# Altium integrated library Silicon Labs Isolation and Power.IntLib: 421 symbols (part 7 of 19)
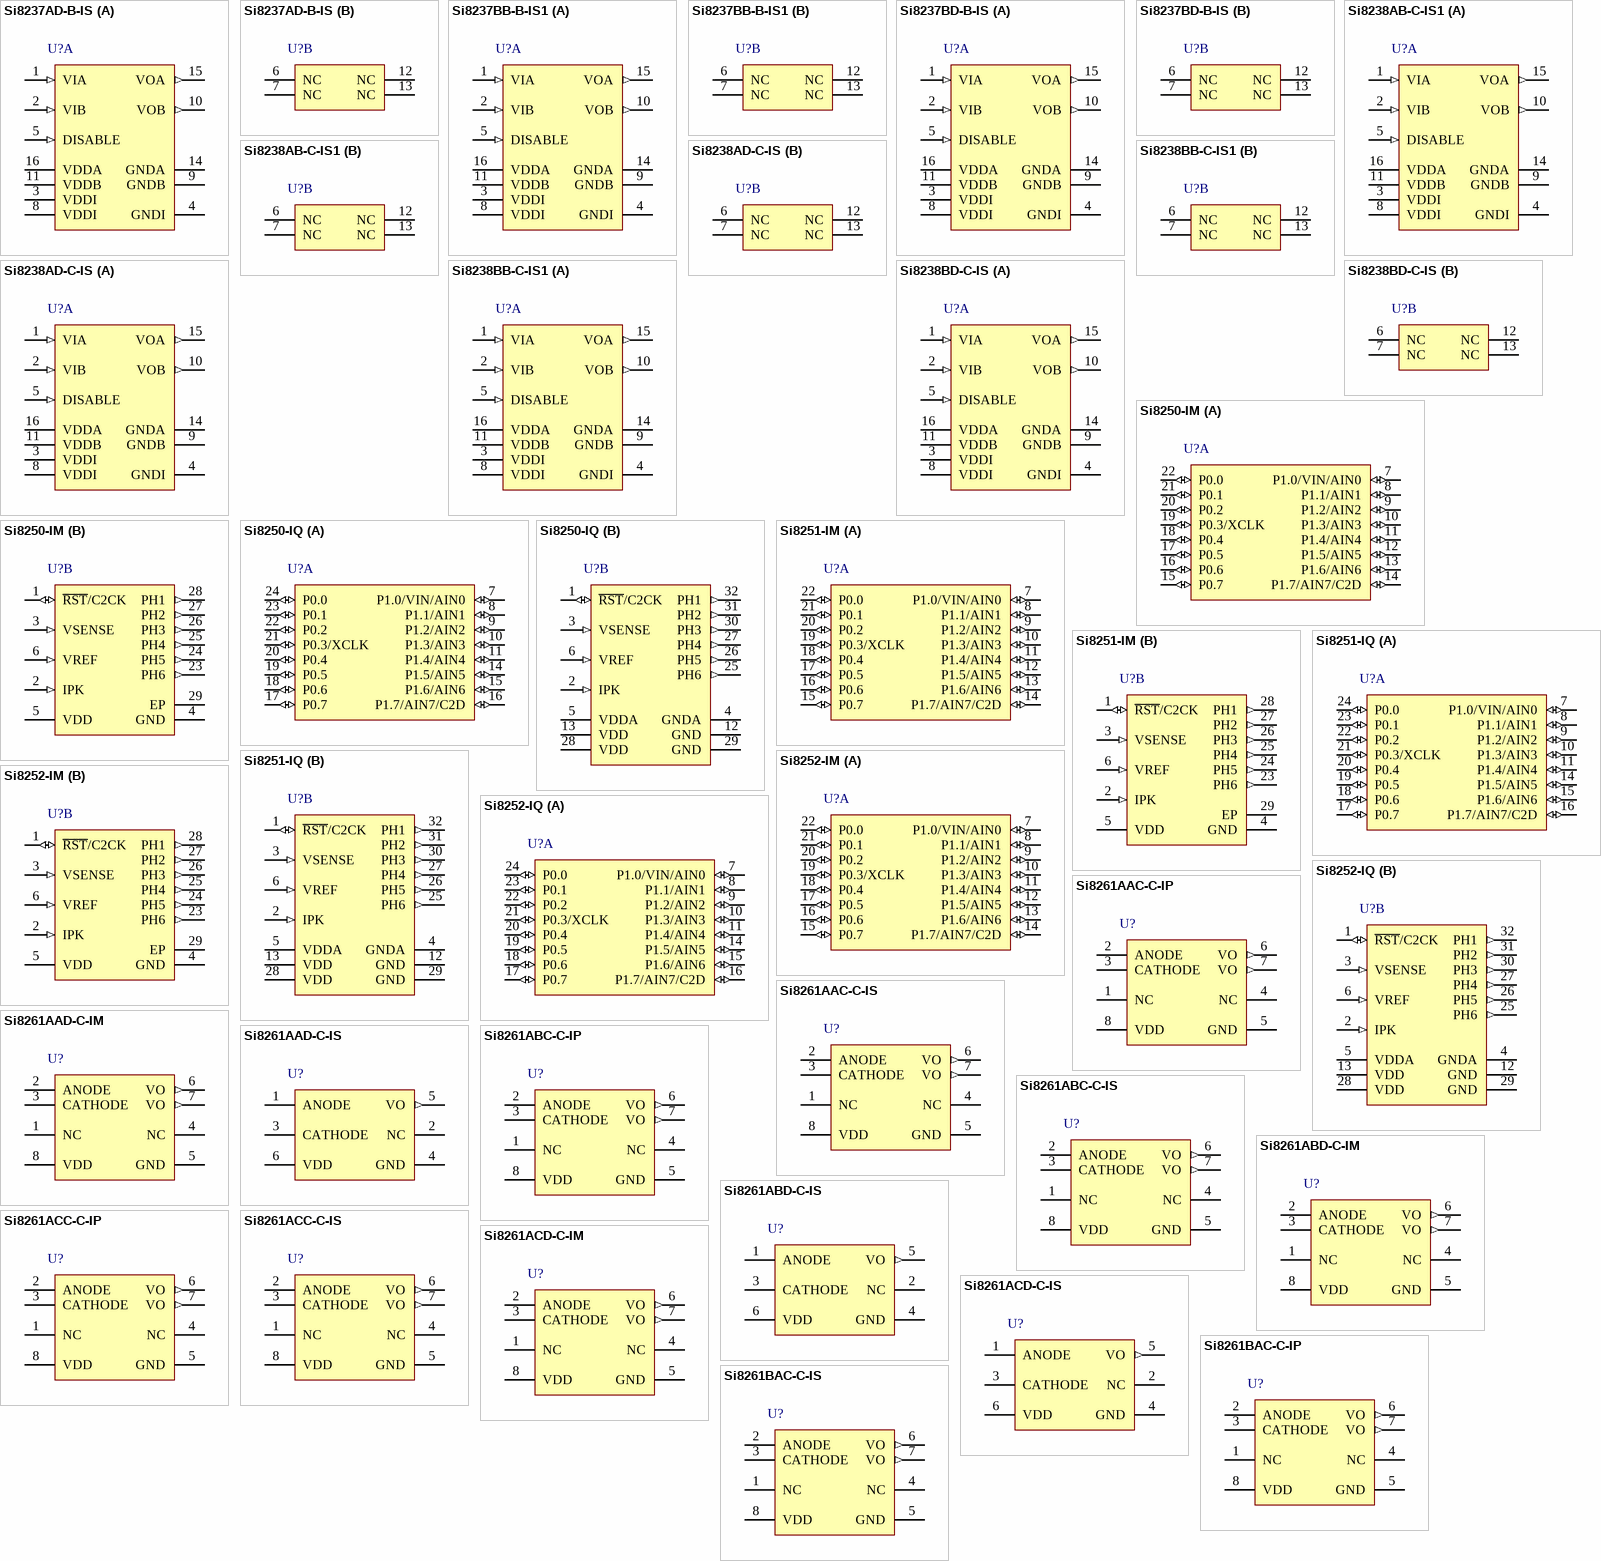
[diagram p20: symbols Si8237AD-B-IS to Si8261BAC-C-IS]

## Si8250-IM
designator U?
Digital Power Controller, 32 kB Flash, 6 DPWM Outputs, -40 to 125 degC, 28-pin QFN; Manufacturer: Silicon Labs; PartNumber: Si8250-IM; DPWM Outputs: 6; Flash: 32 kB; Sub-Family: Power Controllers; DatasheetVersion: Rev. 1.0; PackageReference: QFN-28; Supplier 1: Digi-Key; Supplier Part Number 1: SI8250-IM-ND; Supplier 2: Mouser; Supplier Part Number 2: 634-SI8250-IM; Mounting Technology: Surface Mount; ComponentLink1Description: Manufacturer URL; ComponentLink1URL: http://www.silabs.com/; ComponentLink2Description: Datasheet; ComponentLink2URL: http://www.silabs.com/Support%20Documents/TechnicalDocs/Si8250.pdf; ComponentLink3Description: Package Specification; ComponentLink3URL: http://www.silabs.com/Support%20Documents/TechnicalDocs/Si8250.pdf
footprint SLAB-QFN-28-3125x3125TP_AA_V (QFN, 28-Leads, Body 5x5mm, Pitch 0.5mm, Thermal Pad 3.3x3.3mm)
part A pins: 7 P1.0/VIN/AIN0 (io) "Port 1 I/O or scaled power supply input voltage or ADC input 0", 8 P1.1/AIN1 (io) "Port 1 I/O or ADC input 1", 9 P1.2/AIN2 (io) "Port 1 I/O or ADC input 2", 10 P1.3/AIN3 (io) "Port 1 I/O or ADC input 3", 11 P1.4/AIN4 (io) "Port 1 I/O or ADC input 4", 12 P1.5/AIN5 (io) "Port 1 I/O or ADC input 5", 13 P1.6/AIN6 (io) "Port 1 I/O or ADC input 6", 14 P1.7/AIN7/C2D (io) "Port 1 I/O or ADC input 7 or C2 Data", 15 P0.7 (io) "Port 0 I/O", 16 P0.6 (io) "Port 0 I/O", 17 P0.5 (io) "Port 0 I/O", 18 P0.4 (io) "Port 0 I/O", 19 P0.3/XCLK (io) "Port 0 I/O", 20 P0.2 (io) "Port 0 I/O", 21 P0.1 (io) "Port 0 I/O", 22 P0.0 (io) "Port 0 I/O or bidirectional debug data"
part B pins: 1 ~{RST}/C2CK (io) "Reset input or bidirect debug clock", 2 IPK (in) "Inductor current input", 3 VSENSE (in) "Output voltage feedback input", 4 GND (power) "Ground", 5 VDD (power) "Power supply input", 6 VREF (in) "External voltage reference input", 23 PH6 (out) "Phase 6 switch control output", 24 PH5 (out) "Phase 5 switch control output", 25 PH4 (out) "Phase 4 switch control output", 26 PH3 (out) "Phase 3 switch control output", 27 PH2 (out) "Phase 2 switch control output", 28 PH1 (out) "Phase 1 switch control output", 29 EP (power)

## Si8250-IQ
designator U?
Digital Power Controller, 32 kB Flash, 6 DPWM Outputs, -40 to 125 degC, 32-pin QFP; Manufacturer: Silicon Labs; PartNumber: Si8250-IQ; DPWM Outputs: 6; Flash: 32 kB; Sub-Family: Power Controllers; DatasheetVersion: Rev. 1.0; PackageReference: LQFP-32; PackageDescription: 32-Pin Low-Profile Quad Flat Pack, Body 7 x 7 mm, Pitch 0.8 mm; Supplier 1: Digi-Key; Supplier Part Number 1: SI8250-IQ-ND; Supplier 2: Mouser; Supplier Part Number 2: 634-SI8250-IQ; Mounting Technology: Surface Mount; Code_JEDEC: MS-026; Code_IPC: J-STD-020; ComponentLink1Description: Manufacturer URL; ComponentLink1URL: http://www.silabs.com/; ComponentLink2Description: Datasheet; ComponentLink2URL: http://www.silabs.com/Support%20Documents/TechnicalDocs/Si8250.pdf; ComponentLink3Description: Package Specification; ComponentLink3URL: http://www.silabs.com/Support%20Documents/TechnicalDocs/C8051F38x.pdf
footprint SLAB-LQFP-32_N (QFP, 32-Leads, Body 7x7mm, Pitch 0.8mm, IPC Medium Density)
footprint SLAB-LQFP-32_L (QFP, 32-Leads, Body 7x7mm, Pitch 0.8mm, IPC High Density)
footprint SLAB-LQFP-32_M (QFP, 32-Leads, Body 7x7mm, Pitch 0.8mm, IPC Low Density)
part A pins: 7 P1.0/VIN/AIN0 (io) "Port 1 I/O or scaled power supply input voltage or ADC input 0", 8 P1.1/AIN1 (io) "Port 1 I/O or ADC input 1", 9 P1.2/AIN2 (io) "Port 1 I/O or ADC input 2", 10 P1.3/AIN3 (io) "Port 1 I/O or ADC input 3", 11 P1.4/AIN4 (io) "Port 1 I/O or ADC input 4", 14 P1.5/AIN5 (io) "Port 1 I/O or ADC input 5", 15 P1.6/AIN6 (io) "Port 1 I/O or ADC input 6", 16 P1.7/AIN7/C2D (io) "Port 1 I/O or ADC input 7 or C2 Data", 17 P0.7 (io) "Port 0 I/O", 18 P0.6 (io) "Port 0 I/O", 19 P0.5 (io) "Port 0 I/O", 20 P0.4 (io) "Port 0 I/O", 21 P0.3/XCLK (io) "Port 0 I/O", 22 P0.2 (io) "Port 0 I/O", 23 P0.1 (io) "Port 0 I/O", 24 P0.0 (io) "Port 0 I/O or bidirectional debug data"
part B pins: 1 ~{RST}/C2CK (io) "Reset input or bidirect debug clock", 2 IPK (in) "Inductor current input", 3 VSENSE (in) "Output voltage feedback input", 4 GNDA (power) "Ground", 5 VDDA (power) "Power supply input", 6 VREF (in) "External voltage reference input", 12 GND (power) "Ground", 13 VDD (power) "Power supply input", 25 PH6 (out) "Phase 6 switch control output", 26 PH5 (out) "Phase 5 switch control output", 27 PH4 (out) "Phase 4 switch control output", 28 VDD (power) "Power supply input", 29 GND (power) "Ground", 30 PH3 (out) "Phase 3 switch control output", 31 PH2 (out) "Phase 2 switch control output", 32 PH1 (out) "Phase 1 switch control output"

## Si8251-IM
designator U?
Digital Power Controller, 16 kB Flash, 6 DPWM Outputs, -40 to 125 degC, 28-pin QFN; Manufacturer: Silicon Labs; PartNumber: Si8251-IM; DPWM Outputs: 6; Flash: 16 kB; Sub-Family: Power Controllers; DatasheetVersion: Rev. 1.0; PackageReference: QFN-28; Supplier 1: Digi-Key; Supplier Part Number 1: SI8251-IM-ND; Supplier 2: Mouser; Supplier Part Number 2: 634-SI8251-IM; Mounting Technology: Surface Mount; ComponentLink1Description: Manufacturer URL; ComponentLink1URL: http://www.silabs.com/; ComponentLink2Description: Datasheet; ComponentLink2URL: http://www.silabs.com/Support%20Documents/TechnicalDocs/Si8250.pdf; ComponentLink3Description: Package Specification; ComponentLink3URL: http://www.silabs.com/Support%20Documents/TechnicalDocs/Si8250.pdf
footprint SLAB-QFN-28-3125x3125TP_AA_V (QFN, 28-Leads, Body 5x5mm, Pitch 0.5mm, Thermal Pad 3.3x3.3mm)
part A pins: 7 P1.0/VIN/AIN0 (io) "Port 1 I/O or scaled power supply input voltage or ADC input 0", 8 P1.1/AIN1 (io) "Port 1 I/O or ADC input 1", 9 P1.2/AIN2 (io) "Port 1 I/O or ADC input 2", 10 P1.3/AIN3 (io) "Port 1 I/O or ADC input 3", 11 P1.4/AIN4 (io) "Port 1 I/O or ADC input 4", 12 P1.5/AIN5 (io) "Port 1 I/O or ADC input 5", 13 P1.6/AIN6 (io) "Port 1 I/O or ADC input 6", 14 P1.7/AIN7/C2D (io) "Port 1 I/O or ADC input 7 or C2 Data", 15 P0.7 (io) "Port 0 I/O", 16 P0.6 (io) "Port 0 I/O", 17 P0.5 (io) "Port 0 I/O", 18 P0.4 (io) "Port 0 I/O", 19 P0.3/XCLK (io) "Port 0 I/O", 20 P0.2 (io) "Port 0 I/O", 21 P0.1 (io) "Port 0 I/O", 22 P0.0 (io) "Port 0 I/O or bidirectional debug data"
part B pins: 1 ~{RST}/C2CK (io) "Reset input or bidirect debug clock", 2 IPK (in) "Inductor current input", 3 VSENSE (in) "Output voltage feedback input", 4 GND (power) "Ground", 5 VDD (power) "Power supply input", 6 VREF (in) "External voltage reference input", 23 PH6 (out) "Phase 6 switch control output", 24 PH5 (out) "Phase 5 switch control output", 25 PH4 (out) "Phase 4 switch control output", 26 PH3 (out) "Phase 3 switch control output", 27 PH2 (out) "Phase 2 switch control output", 28 PH1 (out) "Phase 1 switch control output", 29 EP (power)

## Si8251-IQ
designator U?
Digital Power Controller, 16 kB Flash, 6 DPWM Outputs, -40 to 125 degC, 32-pin QFP; Manufacturer: Silicon Labs; PartNumber: Si8251-IQ; DPWM Outputs: 6; Flash: 16 kB; Sub-Family: Power Controllers; DatasheetVersion: Rev. 1.0; PackageReference: LQFP-32; PackageDescription: 32-Pin Low-Profile Quad Flat Pack, Body 7 x 7 mm, Pitch 0.8 mm; Supplier 1: Digi-Key; Supplier Part Number 1: SI8251-IQ-ND; Supplier 2: Mouser; Supplier Part Number 2: 634-SI8251-IQ; Mounting Technology: Surface Mount; Code_JEDEC: MS-026; Code_IPC: J-STD-020; ComponentLink1Description: Manufacturer URL; ComponentLink1URL: http://www.silabs.com/; ComponentLink2Description: Datasheet; ComponentLink2URL: http://www.silabs.com/Support%20Documents/TechnicalDocs/Si8250.pdf; ComponentLink3Description: Package Specification; ComponentLink3URL: http://www.silabs.com/Support%20Documents/TechnicalDocs/C8051F38x.pdf
footprint SLAB-LQFP-32_N (QFP, 32-Leads, Body 7x7mm, Pitch 0.8mm, IPC Medium Density)
footprint SLAB-LQFP-32_L (QFP, 32-Leads, Body 7x7mm, Pitch 0.8mm, IPC High Density)
footprint SLAB-LQFP-32_M (QFP, 32-Leads, Body 7x7mm, Pitch 0.8mm, IPC Low Density)
part A pins: 7 P1.0/VIN/AIN0 (io) "Port 1 I/O or scaled power supply input voltage or ADC input 0", 8 P1.1/AIN1 (io) "Port 1 I/O or ADC input 1", 9 P1.2/AIN2 (io) "Port 1 I/O or ADC input 2", 10 P1.3/AIN3 (io) "Port 1 I/O or ADC input 3", 11 P1.4/AIN4 (io) "Port 1 I/O or ADC input 4", 14 P1.5/AIN5 (io) "Port 1 I/O or ADC input 5", 15 P1.6/AIN6 (io) "Port 1 I/O or ADC input 6", 16 P1.7/AIN7/C2D (io) "Port 1 I/O or ADC input 7 or C2 Data", 17 P0.7 (io) "Port 0 I/O", 18 P0.6 (io) "Port 0 I/O", 19 P0.5 (io) "Port 0 I/O", 20 P0.4 (io) "Port 0 I/O", 21 P0.3/XCLK (io) "Port 0 I/O", 22 P0.2 (io) "Port 0 I/O", 23 P0.1 (io) "Port 0 I/O", 24 P0.0 (io) "Port 0 I/O or bidirectional debug data"
part B pins: 1 ~{RST}/C2CK (io) "Reset input or bidirect debug clock", 2 IPK (in) "Inductor current input", 3 VSENSE (in) "Output voltage feedback input", 4 GNDA (power) "Ground", 5 VDDA (power) "Power supply input", 6 VREF (in) "External voltage reference input", 12 GND (power) "Ground", 13 VDD (power) "Power supply input", 25 PH6 (out) "Phase 6 switch control output", 26 PH5 (out) "Phase 5 switch control output", 27 PH4 (out) "Phase 4 switch control output", 28 VDD (power) "Power supply input", 29 GND (power) "Ground", 30 PH3 (out) "Phase 3 switch control output", 31 PH2 (out) "Phase 2 switch control output", 32 PH1 (out) "Phase 1 switch control output"

## Si8252-IM
designator U?
Digital Power Controller, 16 kB Flash, 3 DPWM Outputs, -40 to 125 degC, 28-pin QFN; Manufacturer: Silicon Labs; PartNumber: Si8252-IM; DPWM Outputs: 3; Flash: 16 kB; Sub-Family: Power Controllers; DatasheetVersion: Rev. 1.0; PackageReference: QFN-28; Supplier 1: Digi-Key; Supplier Part Number 1: SI8252-IM-ND; Supplier 2: Mouser; Supplier Part Number 2: 634-SI8252-IM; Mounting Technology: Surface Mount; ComponentLink1Description: Manufacturer URL; ComponentLink1URL: http://www.silabs.com/; ComponentLink2Description: Datasheet; ComponentLink2URL: http://www.silabs.com/Support%20Documents/TechnicalDocs/Si8250.pdf; ComponentLink3Description: Package Specification; ComponentLink3URL: http://www.silabs.com/Support%20Documents/TechnicalDocs/Si8250.pdf
footprint SLAB-QFN-28-3125x3125TP_AA_V (QFN, 28-Leads, Body 5x5mm, Pitch 0.5mm, Thermal Pad 3.3x3.3mm)
part A pins: 7 P1.0/VIN/AIN0 (io) "Port 1 I/O or scaled power supply input voltage or ADC input 0", 8 P1.1/AIN1 (io) "Port 1 I/O or ADC input 1", 9 P1.2/AIN2 (io) "Port 1 I/O or ADC input 2", 10 P1.3/AIN3 (io) "Port 1 I/O or ADC input 3", 11 P1.4/AIN4 (io) "Port 1 I/O or ADC input 4", 12 P1.5/AIN5 (io) "Port 1 I/O or ADC input 5", 13 P1.6/AIN6 (io) "Port 1 I/O or ADC input 6", 14 P1.7/AIN7/C2D (io) "Port 1 I/O or ADC input 7 or C2 Data", 15 P0.7 (io) "Port 0 I/O", 16 P0.6 (io) "Port 0 I/O", 17 P0.5 (io) "Port 0 I/O", 18 P0.4 (io) "Port 0 I/O", 19 P0.3/XCLK (io) "Port 0 I/O", 20 P0.2 (io) "Port 0 I/O", 21 P0.1 (io) "Port 0 I/O", 22 P0.0 (io) "Port 0 I/O or bidirectional debug data"
part B pins: 1 ~{RST}/C2CK (io) "Reset input or bidirect debug clock", 2 IPK (in) "Inductor current input", 3 VSENSE (in) "Output voltage feedback input", 4 GND (power) "Ground", 5 VDD (power) "Power supply input", 6 VREF (in) "External voltage reference input", 23 PH6 (out) "Phase 6 switch control output", 24 PH5 (out) "Phase 5 switch control output", 25 PH4 (out) "Phase 4 switch control output", 26 PH3 (out) "Phase 3 switch control output", 27 PH2 (out) "Phase 2 switch control output", 28 PH1 (out) "Phase 1 switch control output", 29 EP (power)

## Si8252-IQ
designator U?
Digital Power Controller, 16 kB Flash, 3 DPWM Outputs, -40 to 125 degC, 32-pin QFP; Manufacturer: Silicon Labs; PartNumber: Si8252-IQ; DPWM Outputs: 3; Flash: 16 kB; Sub-Family: Power Controllers; DatasheetVersion: Rev. 1.0; PackageReference: LQFP-32; PackageDescription: 32-Pin Low-Profile Quad Flat Pack, Body 7 x 7 mm, Pitch 0.8 mm; Supplier 1: Digi-Key; Supplier Part Number 1: SI8252-IQ-ND; Supplier 2: Mouser; Supplier Part Number 2: 634-SI8252-IQ; Mounting Technology: Surface Mount; Code_JEDEC: MS-026; Code_IPC: J-STD-020; ComponentLink1Description: Manufacturer URL; ComponentLink1URL: http://www.silabs.com/; ComponentLink2Description: Datasheet; ComponentLink2URL: http://www.silabs.com/Support%20Documents/TechnicalDocs/Si8250.pdf; ComponentLink3Description: Package Specification; ComponentLink3URL: http://www.silabs.com/Support%20Documents/TechnicalDocs/C8051F38x.pdf
footprint SLAB-LQFP-32_N (QFP, 32-Leads, Body 7x7mm, Pitch 0.8mm, IPC Medium Density)
footprint SLAB-LQFP-32_L (QFP, 32-Leads, Body 7x7mm, Pitch 0.8mm, IPC High Density)
footprint SLAB-LQFP-32_M (QFP, 32-Leads, Body 7x7mm, Pitch 0.8mm, IPC Low Density)
part A pins: 7 P1.0/VIN/AIN0 (io) "Port 1 I/O or scaled power supply input voltage or ADC input 0", 8 P1.1/AIN1 (io) "Port 1 I/O or ADC input 1", 9 P1.2/AIN2 (io) "Port 1 I/O or ADC input 2", 10 P1.3/AIN3 (io) "Port 1 I/O or ADC input 3", 11 P1.4/AIN4 (io) "Port 1 I/O or ADC input 4", 14 P1.5/AIN5 (io) "Port 1 I/O or ADC input 5", 15 P1.6/AIN6 (io) "Port 1 I/O or ADC input 6", 16 P1.7/AIN7/C2D (io) "Port 1 I/O or ADC input 7 or C2 Data", 17 P0.7 (io) "Port 0 I/O", 18 P0.6 (io) "Port 0 I/O", 19 P0.5 (io) "Port 0 I/O", 20 P0.4 (io) "Port 0 I/O", 21 P0.3/XCLK (io) "Port 0 I/O", 22 P0.2 (io) "Port 0 I/O", 23 P0.1 (io) "Port 0 I/O", 24 P0.0 (io) "Port 0 I/O or bidirectional debug data"
part B pins: 1 ~{RST}/C2CK (io) "Reset input or bidirect debug clock", 2 IPK (in) "Inductor current input", 3 VSENSE (in) "Output voltage feedback input", 4 GNDA (power) "Ground", 5 VDDA (power) "Power supply input", 6 VREF (in) "External voltage reference input", 12 GND (power) "Ground", 13 VDD (power) "Power supply input", 25 PH6 (out) "Phase 6 switch control output", 26 PH5 (out) "Phase 5 switch control output", 27 PH4 (out) "Phase 4 switch control output", 28 VDD (power) "Power supply input", 29 GND (power) "Ground", 30 PH3 (out) "Phase 3 switch control output", 31 PH2 (out) "Phase 2 switch control output", 32 PH1 (out) "Phase 1 switch control output"

## Si8261AAC-C-IP
designator U?
Led Emulator Input, 0.6 A Isolated Gate Drivers, 5 to 30 V Driver Supply, 3.75 kVRMS Isolation Rating, -40 to 125 degC, 8-pin SOP; Manufacturer: Silicon Labs; PartNumber: Si8261AAC-C-IP; 10kV surge: TRUE; Driver Supply: 5 to 30 V; Isolation Rating (Input-Output, kVrms): 3.75; Max. Prop. Delay (ns): 60; Overlap Protection & Dead Time Control: FALSE; UVLO Voltage: 5 V; Sub-Family: ISOdrivers; DatasheetVersion: Rev. 0.9; PackageReference: DIP8; PackageDescription: 8-Pin Dual In-Line Package, Body 9.65 x 6.35 mm, Pitch 2.54 mm; Supplier 1: Mouser; Supplier Part Number 1: 634-SI8261AAC-C-IP; Mounting Technology: Surface Mount; ComponentLink1Description: Manufacturer URL; ComponentLink1URL: http://www.silabs.com/; ComponentLink2Description: Datasheet; ComponentLink2URL: http://www.silabs.com/Support%20Documents/TechnicalDocs/Si826x.pdf; ComponentLink3Description: Package Specification; ComponentLink3URL: http://www.silabs.com/Support%20Documents/TechnicalDocs/Si826x.pdf
footprint SLAB-DIP8_N (SOP, 8-Leads, Body 9.9x6.6mm, Pitch 2.54mm, IPC Medium Density)
footprint SLAB-DIP8_L (SOP, 8-Leads, Body 9.9x6.6mm, Pitch 2.54mm, IPC High Density)
footprint SLAB-DIP8_M (SOP, 8-Leads, Body 9.9x6.6mm, Pitch 2.54mm, IPC Low Density)
pins: 1 NC "No connect.", 2 ANODE "Anode of LED emulator. VO follows the signal applied to this input with respect to the CATHODE input.", 3 CATHODE "Cathode of LED emulator. VO follows the signal applied to ANODE with respect to this input", 4 NC "No connect.", 5 GND (power) "External MOSFET source connection and ground reference for VDD. This terminal is typically connected to ground but may be tied to a negative or positive voltage.", 6 VO (out) "Output signal. Both VO pins are required to be shorted together for 4.0 A compliance.", 7 VO (out) "Output signal. Both VO pins are required to be shorted together for 4.0 A compliance.", 8 VDD (power) "Output-side power supply input referenced to GND (30 V max)."

## Si8261AAC-C-IS
designator U?
Led Emulator Input, 0.6 A Isolated Gate Drivers, 5 to 30 V Driver Supply, 3.75 kVRMS Isolation Rating, -40 to 125 degC, 8-pin SOIC; Manufacturer: Silicon Labs; PartNumber: Si8261AAC-C-IS; 10kV surge: TRUE; Driver Supply: 5 to 30 V; Isolation Rating (Input-Output, kVrms): 3.75; Max. Prop. Delay (ns): 60; Overlap Protection & Dead Time Control: FALSE; UVLO Voltage: 5 V; Sub-Family: ISOdrivers; DatasheetVersion: Rev. 0.9; PackageReference: SOIC-8-NB; PackageDescription: 8-Pin Narrow Body Plastic Small Outline, Body 4.9 x 3.9 mm, Pitch 1.27 mm; Supplier 1: Digi-Key; Supplier Part Number 1: SI8261AAC-C-IS-ND; Supplier 2: Mouser; Supplier Part Number 2: 634-SI8261AAC-C-IS; Mounting Technology: Surface Mount; ComponentLink1Description: Manufacturer URL; ComponentLink1URL: http://www.silabs.com/; ComponentLink2Description: Datasheet; ComponentLink2URL: http://www.silabs.com/Support%20Documents/TechnicalDocs/Si826x.pdf; ComponentLink3Description: Package Specification; ComponentLink3URL: http://www.silabs.com/Support%20Documents/TechnicalDocs/Si8220-21.pdf
footprint SLAB-SOIC-8-NB_N (SOIC, 8-Leads, Body 5x4mm, Pitch 1.27mm, IPC Medium Density)
footprint SLAB-SOIC-8-NB_L (SOIC, 8-Leads, Body 5x4mm, Pitch 1.27mm, IPC High Density)
footprint SLAB-SOIC-8-NB_M (SOIC, 8-Leads, Body 5x4mm, Pitch 1.27mm, IPC Low Density)
pins: 1 NC "No connect.", 2 ANODE "Anode of LED emulator. VO follows the signal applied to this input with respect to the CATHODE input.", 3 CATHODE "Cathode of LED emulator. VO follows the signal applied to ANODE with respect to this input", 4 NC "No connect.", 5 GND (power) "External MOSFET source connection and ground reference for VDD. This terminal is typically connected to ground but may be tied to a negative or positive voltage.", 6 VO (out) "Output signal. Both VO pins are required to be shorted together for 4.0 A compliance.", 7 VO (out) "Output signal. Both VO pins are required to be shorted together for 4.0 A compliance.", 8 VDD (power) "Output-side power supply input referenced to GND (30 V max)."

## Si8261AAD-C-IM
designator U?
Led Emulator Input, 0.6 A Isolated Gate Drivers, 5 to 30 V Driver Supply, 5 kVRMS Isolation Rating, -40 to 125 degC, 8-pin LGA; Manufacturer: Silicon Labs; PartNumber: Si8261AAD-C-IM; 10kV surge: TRUE; Driver Supply: 5 to 30 V; Isolation Rating (Input-Output, kVrms): 5; Max. Prop. Delay (ns): 60; Overlap Protection & Dead Time Control: FALSE; UVLO Voltage: 5 V; Sub-Family: ISOdrivers; DatasheetVersion: Rev. 0.9; PackageReference: LGA8; PackageDescription: 8-Pin Land Grid Array, Body 10 x 12.5 mm, Pitch 2.54 mm; Supplier 1: Digi-Key; Supplier Part Number 1: SI8261AAD-C-IM-ND; Supplier 2: Mouser; Supplier Part Number 2: 634-SI8261AAD-C-IM; Mounting Technology: Surface Mount; Code_IPC: J-STD-020; ComponentLink1Description: Manufacturer URL; ComponentLink1URL: http://www.silabs.com/; ComponentLink2Description: Datasheet; ComponentLink2URL: http://www.silabs.com/Support%20Documents/TechnicalDocs/Si826x.pdf; ComponentLink3Description: Package Specification; ComponentLink3URL: http://www.silabs.com/Support%20Documents/TechnicalDocs/Si826x.pdf
footprint SLAB-LGA8_V (LGA, 8-Leads, Body 12.5x10mm, Pitch 2.54mm)
pins: 1 NC "No connect.", 2 ANODE "Anode of LED emulator. VO follows the signal applied to this input with respect to the CATHODE input.", 3 CATHODE "Cathode of LED emulator. VO follows the signal applied to ANODE with respect to this input", 4 NC "No connect.", 5 GND (power) "External MOSFET source connection and ground reference for VDD. This terminal is typically connected to ground but may be tied to a negative or positive voltage.", 6 VO (out) "Output signal. Both VO pins are required to be shorted together for 4.0 A compliance.", 7 VO (out) "Output signal. Both VO pins are required to be shorted together for 4.0 A compliance.", 8 VDD (power) "Output-side power supply input referenced to GND (30 V max)."

## Si8261AAD-C-IS
designator U?
Led Emulator Input, 0.6 A Isolated Gate Drivers, 5 to 30 V Driver Supply, 5 kVRMS Isolation Rating, -40 to 125 degC, 6-pin SOP; Manufacturer: Silicon Labs; PartNumber: Si8261AAD-C-IS; 10kV surge: TRUE; Driver Supply: 5 to 30 V; Isolation Rating (Input-Output, kVrms): 5; Max. Prop. Delay (ns): 60; Overlap Protection & Dead Time Control: FALSE; UVLO Voltage: 5 V; Sub-Family: ISOdrivers; DatasheetVersion: Rev. 0.9; PackageReference: SDIP6; PackageDescription: 6-Pin SDIP, Body 4.58 x 7.5 mm, Pitch 1.27 mm; Supplier 1: Digi-Key; Supplier Part Number 1: SI8261AAD-C-IS-ND; Supplier 2: Mouser; Supplier Part Number 2: 634-SI8261AAD-C-IS; Mounting Technology: Surface Mount; ComponentLink1Description: Manufacturer URL; ComponentLink1URL: http://www.silabs.com/; ComponentLink2Description: Datasheet; ComponentLink2URL: http://www.silabs.com/Support%20Documents/TechnicalDocs/Si826x.pdf; ComponentLink3Description: Package Specification; ComponentLink3URL: http://www.silabs.com/Support%20Documents/TechnicalDocs/Si826x.pdf
footprint SLAB-SDIP6_N (SOP, 6-Leads, Body 7.5x4.58mm, Pitch 1.27mm, IPC Medium Density)
footprint SLAB-SDIP6_L (SOP, 6-Leads, Body 7.5x4.58mm, Pitch 1.27mm, IPC High Density)
footprint SLAB-SDIP6_M (SOP, 6-Leads, Body 7.5x4.58mm, Pitch 1.27mm, IPC Low Density)
pins: 1 ANODE "Anode of LED emulator. VO follows the signal applied to this input with respect to the CATHODE input.", 2 NC "No connect.", 3 CATHODE "Cathode of LED emulator. VO follows the signal applied to ANODE with respect to this input.", 4 GND (power) "External MOSFET source connection and ground reference for VDD. This terminal is typically connected to ground but may be tied to a negative or positive voltage.", 5 VO (out) "Output signal.", 6 VDD (power) "Output-side power supply input referenced to GND (30 V max)."

## Si8261ABC-C-IP
designator U?
Led Emulator Input, 0.6 A Isolated Gate Drivers, 5 to 30 V Driver Supply, 3.75 kVRMS Isolation Rating, -40 to 125 degC, 8-pin SOP; Manufacturer: Silicon Labs; PartNumber: Si8261ABC-C-IP; 10kV surge: TRUE; Driver Supply: 5 to 30 V; Isolation Rating (Input-Output, kVrms): 3.75; Max. Prop. Delay (ns): 60; Overlap Protection & Dead Time Control: FALSE; UVLO Voltage: 8 V; Sub-Family: ISOdrivers; DatasheetVersion: Rev. 0.9; PackageReference: DIP8; PackageDescription: 8-Pin Dual In-Line Package, Body 9.65 x 6.35 mm, Pitch 2.54 mm; Supplier 1: Mouser; Supplier Part Number 1: 634-SI8261ABC-C-IP; Mounting Technology: Surface Mount; ComponentLink1Description: Manufacturer URL; ComponentLink1URL: http://www.silabs.com/; ComponentLink2Description: Datasheet; ComponentLink2URL: http://www.silabs.com/Support%20Documents/TechnicalDocs/Si826x.pdf; ComponentLink3Description: Package Specification; ComponentLink3URL: http://www.silabs.com/Support%20Documents/TechnicalDocs/Si826x.pdf
footprint SLAB-DIP8_N (SOP, 8-Leads, Body 9.9x6.6mm, Pitch 2.54mm, IPC Medium Density)
footprint SLAB-DIP8_L (SOP, 8-Leads, Body 9.9x6.6mm, Pitch 2.54mm, IPC High Density)
footprint SLAB-DIP8_M (SOP, 8-Leads, Body 9.9x6.6mm, Pitch 2.54mm, IPC Low Density)
pins: 1 NC "No connect.", 2 ANODE "Anode of LED emulator. VO follows the signal applied to this input with respect to the CATHODE input.", 3 CATHODE "Cathode of LED emulator. VO follows the signal applied to ANODE with respect to this input", 4 NC "No connect.", 5 GND (power) "External MOSFET source connection and ground reference for VDD. This terminal is typically connected to ground but may be tied to a negative or positive voltage.", 6 VO (out) "Output signal. Both VO pins are required to be shorted together for 4.0 A compliance.", 7 VO (out) "Output signal. Both VO pins are required to be shorted together for 4.0 A compliance.", 8 VDD (power) "Output-side power supply input referenced to GND (30 V max)."

## Si8261ABC-C-IS
designator U?
Led Emulator Input, 0.6 A Isolated Gate Drivers, 5 to 30 V Driver Supply, 3.75 kVRMS Isolation Rating, -40 to 125 degC, 8-pin SOIC; Manufacturer: Silicon Labs; PartNumber: Si8261ABC-C-IS; 10kV surge: TRUE; Driver Supply: 5 to 30 V; Isolation Rating (Input-Output, kVrms): 3.75; Max. Prop. Delay (ns): 60; Overlap Protection & Dead Time Control: FALSE; UVLO Voltage: 8 V; Sub-Family: ISOdrivers; DatasheetVersion: Rev. 0.9; PackageReference: SOIC-8-NB; PackageDescription: 8-Pin Narrow Body Plastic Small Outline, Body 4.9 x 3.9 mm, Pitch 1.27 mm; Supplier 1: Digi-Key; Supplier Part Number 1: SI8261ABC-C-IS-ND; Supplier 2: Mouser; Supplier Part Number 2: 634-SI8261ABC-C-IS; Mounting Technology: Surface Mount; ComponentLink1Description: Manufacturer URL; ComponentLink1URL: http://www.silabs.com/; ComponentLink2Description: Datasheet; ComponentLink2URL: http://www.silabs.com/Support%20Documents/TechnicalDocs/Si826x.pdf; ComponentLink3Description: Package Specification; ComponentLink3URL: http://www.silabs.com/Support%20Documents/TechnicalDocs/Si8220-21.pdf
footprint SLAB-SOIC-8-NB_N (SOIC, 8-Leads, Body 5x4mm, Pitch 1.27mm, IPC Medium Density)
footprint SLAB-SOIC-8-NB_L (SOIC, 8-Leads, Body 5x4mm, Pitch 1.27mm, IPC High Density)
footprint SLAB-SOIC-8-NB_M (SOIC, 8-Leads, Body 5x4mm, Pitch 1.27mm, IPC Low Density)
pins: 1 NC "No connect.", 2 ANODE "Anode of LED emulator. VO follows the signal applied to this input with respect to the CATHODE input.", 3 CATHODE "Cathode of LED emulator. VO follows the signal applied to ANODE with respect to this input", 4 NC "No connect.", 5 GND (power) "External MOSFET source connection and ground reference for VDD. This terminal is typically connected to ground but may be tied to a negative or positive voltage.", 6 VO (out) "Output signal. Both VO pins are required to be shorted together for 4.0 A compliance.", 7 VO (out) "Output signal. Both VO pins are required to be shorted together for 4.0 A compliance.", 8 VDD (power) "Output-side power supply input referenced to GND (30 V max)."

## Si8261ABD-C-IM
designator U?
Led Emulator Input, 0.6 A Isolated Gate Drivers, 5 to 30 V Driver Supply, 5 kVRMS Isolation Rating, -40 to 125 degC, 8-pin LGA; Manufacturer: Silicon Labs; PartNumber: Si8261ABD-C-IM; 10kV surge: TRUE; Driver Supply: 5 to 30 V; Isolation Rating (Input-Output, kVrms): 5; Max. Prop. Delay (ns): 60; Overlap Protection & Dead Time Control: FALSE; UVLO Voltage: 8 V; Sub-Family: ISOdrivers; DatasheetVersion: Rev. 0.9; PackageReference: LGA8; PackageDescription: 8-Pin Land Grid Array, Body 10 x 12.5 mm, Pitch 2.54 mm; Supplier 1: Digi-Key; Supplier Part Number 1: SI8261ABD-C-IM-ND; Supplier 2: Mouser; Supplier Part Number 2: 634-SI8261ABD-C-IM; Mounting Technology: Surface Mount; Code_IPC: J-STD-020; ComponentLink1Description: Manufacturer URL; ComponentLink1URL: http://www.silabs.com/; ComponentLink2Description: Datasheet; ComponentLink2URL: http://www.silabs.com/Support%20Documents/TechnicalDocs/Si826x.pdf; ComponentLink3Description: Package Specification; ComponentLink3URL: http://www.silabs.com/Support%20Documents/TechnicalDocs/Si826x.pdf
footprint SLAB-LGA8_V (LGA, 8-Leads, Body 12.5x10mm, Pitch 2.54mm)
pins: 1 NC "No connect.", 2 ANODE "Anode of LED emulator. VO follows the signal applied to this input with respect to the CATHODE input.", 3 CATHODE "Cathode of LED emulator. VO follows the signal applied to ANODE with respect to this input", 4 NC "No connect.", 5 GND (power) "External MOSFET source connection and ground reference for VDD. This terminal is typically connected to ground but may be tied to a negative or positive voltage.", 6 VO (out) "Output signal. Both VO pins are required to be shorted together for 4.0 A compliance.", 7 VO (out) "Output signal. Both VO pins are required to be shorted together for 4.0 A compliance.", 8 VDD (power) "Output-side power supply input referenced to GND (30 V max)."

## Si8261ABD-C-IS
designator U?
Led Emulator Input, 0.6 A Isolated Gate Drivers, 5 to 30 V Driver Supply, 5 kVRMS Isolation Rating, -40 to 125 degC, 6-pin SOP; Manufacturer: Silicon Labs; PartNumber: Si8261ABD-C-IS; 10kV surge: TRUE; Driver Supply: 5 to 30 V; Isolation Rating (Input-Output, kVrms): 5; Max. Prop. Delay (ns): 60; Overlap Protection & Dead Time Control: FALSE; UVLO Voltage: 8 V; Sub-Family: ISOdrivers; DatasheetVersion: Rev. 0.9; PackageReference: SDIP6; PackageDescription: 6-Pin SDIP, Body 4.58 x 7.5 mm, Pitch 1.27 mm; Supplier 1: Digi-Key; Supplier Part Number 1: SI8261ABD-C-IS-ND; Supplier 2: Mouser; Supplier Part Number 2: 634-SI8261ABD-C-IS; Mounting Technology: Surface Mount; ComponentLink1Description: Manufacturer URL; ComponentLink1URL: http://www.silabs.com/; ComponentLink2Description: Datasheet; ComponentLink2URL: http://www.silabs.com/Support%20Documents/TechnicalDocs/Si826x.pdf; ComponentLink3Description: Package Specification; ComponentLink3URL: http://www.silabs.com/Support%20Documents/TechnicalDocs/Si826x.pdf
footprint SLAB-SDIP6_N (SOP, 6-Leads, Body 7.5x4.58mm, Pitch 1.27mm, IPC Medium Density)
footprint SLAB-SDIP6_L (SOP, 6-Leads, Body 7.5x4.58mm, Pitch 1.27mm, IPC High Density)
footprint SLAB-SDIP6_M (SOP, 6-Leads, Body 7.5x4.58mm, Pitch 1.27mm, IPC Low Density)
pins: 1 ANODE "Anode of LED emulator. VO follows the signal applied to this input with respect to the CATHODE input.", 2 NC "No connect.", 3 CATHODE "Cathode of LED emulator. VO follows the signal applied to ANODE with respect to this input.", 4 GND (power) "External MOSFET source connection and ground reference for VDD. This terminal is typically connected to ground but may be tied to a negative or positive voltage.", 5 VO (out) "Output signal.", 6 VDD (power) "Output-side power supply input referenced to GND (30 V max)."

## Si8261ACC-C-IP
designator U?
Led Emulator Input, 0.6 A Isolated Gate Drivers, 5 to 30 V Driver Supply, 3.75 kVRMS Isolation Rating, -40 to 125 degC, 8-pin SOP; Manufacturer: Silicon Labs; PartNumber: Si8261ACC-C-IP; 10kV surge: TRUE; Driver Supply: 5 to 30 V; Isolation Rating (Input-Output, kVrms): 3.75; Max. Prop. Delay (ns): 60; Overlap Protection & Dead Time Control: FALSE; UVLO Voltage: 12 V; Sub-Family: ISOdrivers; DatasheetVersion: Rev. 0.9; PackageReference: DIP8; PackageDescription: 8-Pin Dual In-Line Package, Body 9.65 x 6.35 mm, Pitch 2.54 mm; Supplier 1: Digi-Key; Supplier Part Number 1: 336-2425-5-ND; Supplier 2: Mouser; Supplier Part Number 2: 634-SI8261ACC-C-IP; Mounting Technology: Surface Mount; ComponentLink1Description: Manufacturer URL; ComponentLink1URL: http://www.silabs.com/; ComponentLink2Description: Datasheet; ComponentLink2URL: http://www.silabs.com/Support%20Documents/TechnicalDocs/Si826x.pdf; ComponentLink3Description: Package Specification; ComponentLink3URL: http://www.silabs.com/Support%20Documents/TechnicalDocs/Si826x.pdf
footprint SLAB-DIP8_N (SOP, 8-Leads, Body 9.9x6.6mm, Pitch 2.54mm, IPC Medium Density)
footprint SLAB-DIP8_L (SOP, 8-Leads, Body 9.9x6.6mm, Pitch 2.54mm, IPC High Density)
footprint SLAB-DIP8_M (SOP, 8-Leads, Body 9.9x6.6mm, Pitch 2.54mm, IPC Low Density)
pins: 1 NC "No connect.", 2 ANODE "Anode of LED emulator. VO follows the signal applied to this input with respect to the CATHODE input.", 3 CATHODE "Cathode of LED emulator. VO follows the signal applied to ANODE with respect to this input", 4 NC "No connect.", 5 GND (power) "External MOSFET source connection and ground reference for VDD. This terminal is typically connected to ground but may be tied to a negative or positive voltage.", 6 VO (out) "Output signal. Both VO pins are required to be shorted together for 4.0 A compliance.", 7 VO (out) "Output signal. Both VO pins are required to be shorted together for 4.0 A compliance.", 8 VDD (power) "Output-side power supply input referenced to GND (30 V max)."

## Si8261ACC-C-IS
designator U?
Led Emulator Input, 0.6 A Isolated Gate Drivers, 5 to 30 V Driver Supply, 3.75 kVRMS Isolation Rating, -40 to 125 degC, 8-pin SOIC; Manufacturer: Silicon Labs; PartNumber: Si8261ACC-C-IS; 10kV surge: TRUE; Driver Supply: 5 to 30 V; Isolation Rating (Input-Output, kVrms): 3.75; Max. Prop. Delay (ns): 60; Overlap Protection & Dead Time Control: FALSE; UVLO Voltage: 12 V; Sub-Family: ISOdrivers; DatasheetVersion: Rev. 0.9; PackageReference: SOIC-8-NB; PackageDescription: 8-Pin Narrow Body Plastic Small Outline, Body 4.9 x 3.9 mm, Pitch 1.27 mm; Supplier 1: Digi-Key; Supplier Part Number 1: 336-2424-5-ND; Supplier 2: Mouser; Supplier Part Number 2: 634-SI8261ACC-C-IS; Mounting Technology: Surface Mount; ComponentLink1Description: Manufacturer URL; ComponentLink1URL: http://www.silabs.com/; ComponentLink2Description: Datasheet; ComponentLink2URL: http://www.silabs.com/Support%20Documents/TechnicalDocs/Si826x.pdf; ComponentLink3Description: Package Specification; ComponentLink3URL: http://www.silabs.com/Support%20Documents/TechnicalDocs/Si8220-21.pdf
footprint SLAB-SOIC-8-NB_N (SOIC, 8-Leads, Body 5x4mm, Pitch 1.27mm, IPC Medium Density)
footprint SLAB-SOIC-8-NB_L (SOIC, 8-Leads, Body 5x4mm, Pitch 1.27mm, IPC High Density)
footprint SLAB-SOIC-8-NB_M (SOIC, 8-Leads, Body 5x4mm, Pitch 1.27mm, IPC Low Density)
pins: 1 NC "No connect.", 2 ANODE "Anode of LED emulator. VO follows the signal applied to this input with respect to the CATHODE input.", 3 CATHODE "Cathode of LED emulator. VO follows the signal applied to ANODE with respect to this input", 4 NC "No connect.", 5 GND (power) "External MOSFET source connection and ground reference for VDD. This terminal is typically connected to ground but may be tied to a negative or positive voltage.", 6 VO (out) "Output signal. Both VO pins are required to be shorted together for 4.0 A compliance.", 7 VO (out) "Output signal. Both VO pins are required to be shorted together for 4.0 A compliance.", 8 VDD (power) "Output-side power supply input referenced to GND (30 V max)."

## Si8261ACD-C-IM
designator U?
Led Emulator Input, 0.6 A Isolated Gate Drivers, 5 to 30 V Driver Supply, 5 kVRMS Isolation Rating, -40 to 125 degC, 8-pin LGA; Manufacturer: Silicon Labs; PartNumber: Si8261ACD-C-IM; 10kV surge: TRUE; Driver Supply: 5 to 30 V; Isolation Rating (Input-Output, kVrms): 5; Max. Prop. Delay (ns): 60; Overlap Protection & Dead Time Control: FALSE; UVLO Voltage: 12 V; Sub-Family: ISOdrivers; DatasheetVersion: Rev. 0.9; PackageReference: LGA8; PackageDescription: 8-Pin Land Grid Array, Body 10 x 12.5 mm, Pitch 2.54 mm; Supplier 1: Digi-Key; Supplier Part Number 1: 336-2423-ND; Supplier 2: Mouser; Supplier Part Number 2: 634-SI8261ACD-C-IM; Mounting Technology: Surface Mount; Code_IPC: J-STD-020; ComponentLink1Description: Manufacturer URL; ComponentLink1URL: http://www.silabs.com/; ComponentLink2Description: Datasheet; ComponentLink2URL: http://www.silabs.com/Support%20Documents/TechnicalDocs/Si826x.pdf; ComponentLink3Description: Package Specification; ComponentLink3URL: http://www.silabs.com/Support%20Documents/TechnicalDocs/Si826x.pdf
footprint SLAB-LGA8_V (LGA, 8-Leads, Body 12.5x10mm, Pitch 2.54mm)
pins: 1 NC "No connect.", 2 ANODE "Anode of LED emulator. VO follows the signal applied to this input with respect to the CATHODE input.", 3 CATHODE "Cathode of LED emulator. VO follows the signal applied to ANODE with respect to this input", 4 NC "No connect.", 5 GND (power) "External MOSFET source connection and ground reference for VDD. This terminal is typically connected to ground but may be tied to a negative or positive voltage.", 6 VO (out) "Output signal. Both VO pins are required to be shorted together for 4.0 A compliance.", 7 VO (out) "Output signal. Both VO pins are required to be shorted together for 4.0 A compliance.", 8 VDD (power) "Output-side power supply input referenced to GND (30 V max)."

## Si8261ACD-C-IS
designator U?
Led Emulator Input, 0.6 A Isolated Gate Drivers, 5 to 30 V Driver Supply, 5 kVRMS Isolation Rating, -40 to 125 degC, 6-pin SOP; Manufacturer: Silicon Labs; PartNumber: Si8261ACD-C-IS; 10kV surge: TRUE; Driver Supply: 5 to 30 V; Isolation Rating (Input-Output, kVrms): 5; Max. Prop. Delay (ns): 60; Overlap Protection & Dead Time Control: FALSE; UVLO Voltage: 12 V; Sub-Family: ISOdrivers; DatasheetVersion: Rev. 0.9; PackageReference: SDIP6; PackageDescription: 6-Pin SDIP, Body 4.58 x 7.5 mm, Pitch 1.27 mm; Supplier 1: Digi-Key; Supplier Part Number 1: 336-2422-5-ND; Supplier 2: Mouser; Supplier Part Number 2: 634-SI8261ACD-C-IS; Mounting Technology: Surface Mount; ComponentLink1Description: Manufacturer URL; ComponentLink1URL: http://www.silabs.com/; ComponentLink2Description: Datasheet; ComponentLink2URL: http://www.silabs.com/Support%20Documents/TechnicalDocs/Si826x.pdf; ComponentLink3Description: Package Specification; ComponentLink3URL: http://www.silabs.com/Support%20Documents/TechnicalDocs/Si826x.pdf
footprint SLAB-SDIP6_N (SOP, 6-Leads, Body 7.5x4.58mm, Pitch 1.27mm, IPC Medium Density)
footprint SLAB-SDIP6_L (SOP, 6-Leads, Body 7.5x4.58mm, Pitch 1.27mm, IPC High Density)
footprint SLAB-SDIP6_M (SOP, 6-Leads, Body 7.5x4.58mm, Pitch 1.27mm, IPC Low Density)
pins: 1 ANODE "Anode of LED emulator. VO follows the signal applied to this input with respect to the CATHODE input.", 2 NC "No connect.", 3 CATHODE "Cathode of LED emulator. VO follows the signal applied to ANODE with respect to this input.", 4 GND (power) "External MOSFET source connection and ground reference for VDD. This terminal is typically connected to ground but may be tied to a negative or positive voltage.", 5 VO (out) "Output signal.", 6 VDD (power) "Output-side power supply input referenced to GND (30 V max)."

## Si8261BAC-C-IP
designator U?
Led Emulator Input, 4.0 A Isolated Gate Drivers, 5 to 30 V Driver Supply, 3.75 kVRMS Isolation Rating, -40 to 125 degC, 8-pin SOP; Manufacturer: Silicon Labs; PartNumber: Si8261BAC-C-IP; 10kV surge: TRUE; Driver Supply: 5 to 30 V; Isolation Rating (Input-Output, kVrms): 3.75; Max. Prop. Delay (ns): 60; Overlap Protection & Dead Time Control: FALSE; UVLO Voltage: 5 V; Sub-Family: ISOdrivers; DatasheetVersion: Rev. 0.9; PackageReference: DIP8; PackageDescription: 8-Pin Dual In-Line Package, Body 9.65 x 6.35 mm, Pitch 2.54 mm; Supplier 1: Mouser; Supplier Part Number 1: 634-SI8261BAC-C-IP; Mounting Technology: Surface Mount; ComponentLink1Description: Manufacturer URL; ComponentLink1URL: http://www.silabs.com/; ComponentLink2Description: Datasheet; ComponentLink2URL: http://www.silabs.com/Support%20Documents/TechnicalDocs/Si826x.pdf; ComponentLink3Description: Package Specification; ComponentLink3URL: http://www.silabs.com/Support%20Documents/TechnicalDocs/Si826x.pdf
footprint SLAB-DIP8_N (SOP, 8-Leads, Body 9.9x6.6mm, Pitch 2.54mm, IPC Medium Density)
footprint SLAB-DIP8_L (SOP, 8-Leads, Body 9.9x6.6mm, Pitch 2.54mm, IPC High Density)
footprint SLAB-DIP8_M (SOP, 8-Leads, Body 9.9x6.6mm, Pitch 2.54mm, IPC Low Density)
pins: 1 NC "No connect.", 2 ANODE "Anode of LED emulator. VO follows the signal applied to this input with respect to the CATHODE input.", 3 CATHODE "Cathode of LED emulator. VO follows the signal applied to ANODE with respect to this input", 4 NC "No connect.", 5 GND (power) "External MOSFET source connection and ground reference for VDD. This terminal is typically connected to ground but may be tied to a negative or positive voltage.", 6 VO (out) "Output signal. Both VO pins are required to be shorted together for 4.0 A compliance.", 7 VO (out) "Output signal. Both VO pins are required to be shorted together for 4.0 A compliance.", 8 VDD (power) "Output-side power supply input referenced to GND (30 V max)."

## Si8261BAC-C-IS
designator U?
Led Emulator Input, 4.0 A Isolated Gate Drivers, 5 to 30 V Driver Supply, 3.75 kVRMS Isolation Rating, -40 to 125 degC, 8-pin SOIC; Manufacturer: Silicon Labs; PartNumber: Si8261BAC-C-IS; 10kV surge: TRUE; Driver Supply: 5 to 30 V; Isolation Rating (Input-Output, kVrms): 3.75; Max. Prop. Delay (ns): 60; Overlap Protection & Dead Time Control: FALSE; UVLO Voltage: 5 V; Sub-Family: ISOdrivers; DatasheetVersion: Rev. 0.9; PackageReference: SOIC-8-NB; PackageDescription: 8-Pin Narrow Body Plastic Small Outline, Body 4.9 x 3.9 mm, Pitch 1.27 mm; Supplier 1: Mouser; Supplier Part Number 1: 634-SI8261BAC-C-IS; Mounting Technology: Surface Mount; ComponentLink1Description: Manufacturer URL; ComponentLink1URL: http://www.silabs.com/; ComponentLink2Description: Datasheet; ComponentLink2URL: http://www.silabs.com/Support%20Documents/TechnicalDocs/Si826x.pdf; ComponentLink3Description: Package Specification; ComponentLink3URL: http://www.silabs.com/Support%20Documents/TechnicalDocs/Si8220-21.pdf
footprint SLAB-SOIC-8-NB_N (SOIC, 8-Leads, Body 5x4mm, Pitch 1.27mm, IPC Medium Density)
footprint SLAB-SOIC-8-NB_L (SOIC, 8-Leads, Body 5x4mm, Pitch 1.27mm, IPC High Density)
footprint SLAB-SOIC-8-NB_M (SOIC, 8-Leads, Body 5x4mm, Pitch 1.27mm, IPC Low Density)
pins: 1 NC "No connect.", 2 ANODE "Anode of LED emulator. VO follows the signal applied to this input with respect to the CATHODE input.", 3 CATHODE "Cathode of LED emulator. VO follows the signal applied to ANODE with respect to this input", 4 NC "No connect.", 5 GND (power) "External MOSFET source connection and ground reference for VDD. This terminal is typically connected to ground but may be tied to a negative or positive voltage.", 6 VO (out) "Output signal. Both VO pins are required to be shorted together for 4.0 A compliance.", 7 VO (out) "Output signal. Both VO pins are required to be shorted together for 4.0 A compliance.", 8 VDD (power) "Output-side power supply input referenced to GND (30 V max)."

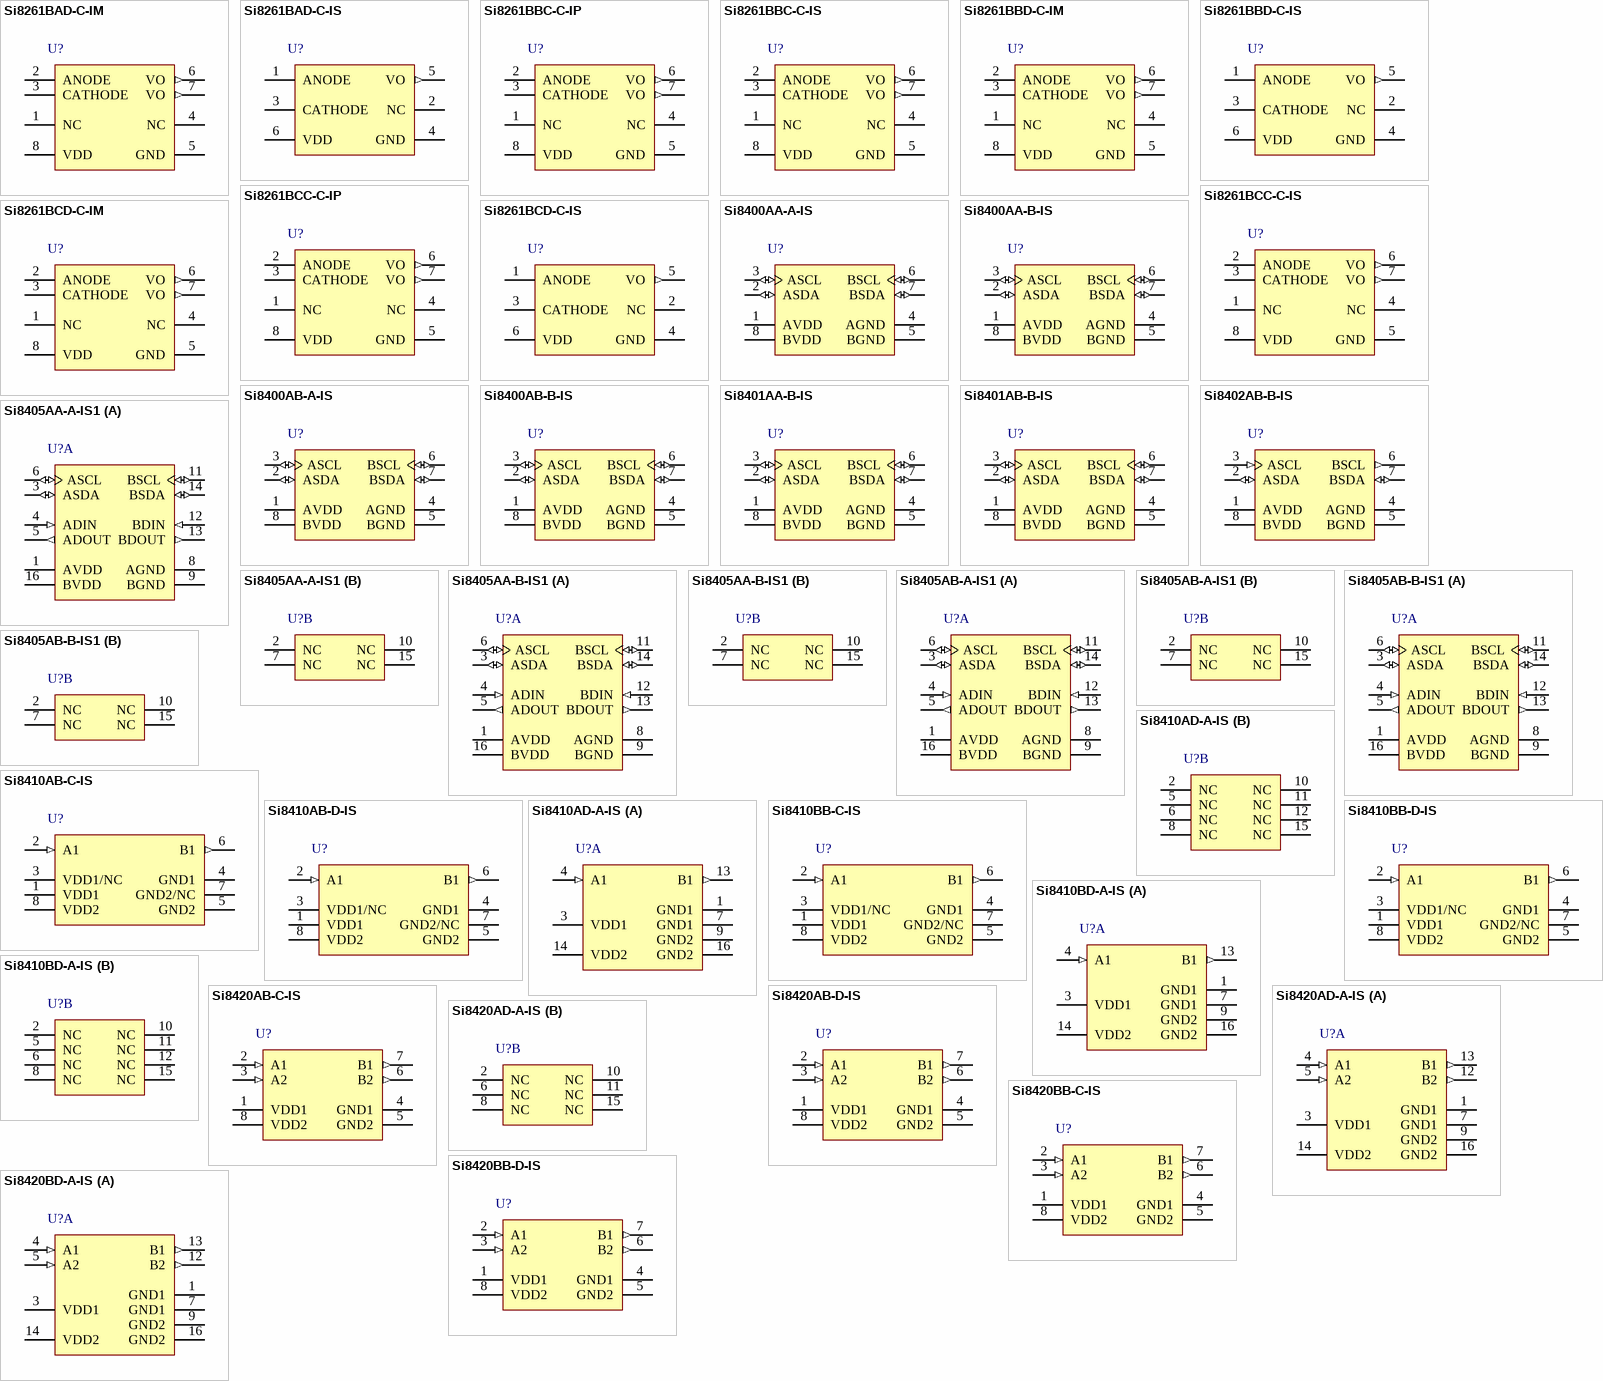
[diagram p5: symbols Si8261BAD-C-IM to Si8420BD-A-IS]

## Si8261BAD-C-IM
designator U?
Led Emulator Input, 4.0 A Isolated Gate Drivers, 5 to 30 V Driver Supply, 5 kVRMS Isolation Rating, -40 to 125 degC, 8-pin LGA; Manufacturer: Silicon Labs; PartNumber: Si8261BAD-C-IM; 10kV surge: TRUE; Driver Supply: 5 to 30 V; Isolation Rating (Input-Output, kVrms): 5; Max. Prop. Delay (ns): 60; Overlap Protection & Dead Time Control: FALSE; UVLO Voltage: 5 V; Sub-Family: ISOdrivers; DatasheetVersion: Rev. 0.9; PackageReference: LGA8; PackageDescription: 8-Pin Land Grid Array, Body 10 x 12.5 mm, Pitch 2.54 mm; Supplier 1: Mouser; Supplier Part Number 1: 634-SI8261BAD-C-IM; Mounting Technology: Surface Mount; Code_IPC: J-STD-020; ComponentLink1Description: Manufacturer URL; ComponentLink1URL: http://www.silabs.com/; ComponentLink2Description: Datasheet; ComponentLink2URL: http://www.silabs.com/Support%20Documents/TechnicalDocs/Si826x.pdf; ComponentLink3Description: Package Specification; ComponentLink3URL: http://www.silabs.com/Support%20Documents/TechnicalDocs/Si826x.pdf
footprint SLAB-LGA8_V (LGA, 8-Leads, Body 12.5x10mm, Pitch 2.54mm)
pins: 1 NC "No connect.", 2 ANODE "Anode of LED emulator. VO follows the signal applied to this input with respect to the CATHODE input.", 3 CATHODE "Cathode of LED emulator. VO follows the signal applied to ANODE with respect to this input", 4 NC "No connect.", 5 GND (power) "External MOSFET source connection and ground reference for VDD. This terminal is typically connected to ground but may be tied to a negative or positive voltage.", 6 VO (out) "Output signal. Both VO pins are required to be shorted together for 4.0 A compliance.", 7 VO (out) "Output signal. Both VO pins are required to be shorted together for 4.0 A compliance.", 8 VDD (power) "Output-side power supply input referenced to GND (30 V max)."

## Si8261BAD-C-IS
designator U?
Led Emulator Input, 4.0 A Isolated Gate Drivers, 5 to 30 V Driver Supply, 5 kVRMS Isolation Rating, -40 to 125 degC, 6-pin SOP; Manufacturer: Silicon Labs; PartNumber: Si8261BAD-C-IS; 10kV surge: TRUE; Driver Supply: 5 to 30 V; Isolation Rating (Input-Output, kVrms): 5; Max. Prop. Delay (ns): 60; Overlap Protection & Dead Time Control: FALSE; UVLO Voltage: 5 V; Sub-Family: ISOdrivers; DatasheetVersion: Rev. 0.9; PackageReference: SDIP6; PackageDescription: 6-Pin SDIP, Body 4.58 x 7.5 mm, Pitch 1.27 mm; Supplier 1: Mouser; Supplier Part Number 1: 634-SI8261BAD-C-IS; Mounting Technology: Surface Mount; ComponentLink1Description: Manufacturer URL; ComponentLink1URL: http://www.silabs.com/; ComponentLink2Description: Datasheet; ComponentLink2URL: http://www.silabs.com/Support%20Documents/TechnicalDocs/Si826x.pdf; ComponentLink3Description: Package Specification; ComponentLink3URL: http://www.silabs.com/Support%20Documents/TechnicalDocs/Si826x.pdf
footprint SLAB-SDIP6_N (SOP, 6-Leads, Body 7.5x4.58mm, Pitch 1.27mm, IPC Medium Density)
footprint SLAB-SDIP6_L (SOP, 6-Leads, Body 7.5x4.58mm, Pitch 1.27mm, IPC High Density)
footprint SLAB-SDIP6_M (SOP, 6-Leads, Body 7.5x4.58mm, Pitch 1.27mm, IPC Low Density)
pins: 1 ANODE "Anode of LED emulator. VO follows the signal applied to this input with respect to the CATHODE input.", 2 NC "No connect.", 3 CATHODE "Cathode of LED emulator. VO follows the signal applied to ANODE with respect to this input.", 4 GND (power) "External MOSFET source connection and ground reference for VDD. This terminal is typically connected to ground but may be tied to a negative or positive voltage.", 5 VO (out) "Output signal.", 6 VDD (power) "Output-side power supply input referenced to GND (30 V max)."

## Si8261BBC-C-IP
designator U?
Led Emulator Input, 4.0 A Isolated Gate Drivers, 5 to 30 V Driver Supply, 3.75 kVRMS Isolation Rating, -40 to 125 degC, 8-pin SOP; Manufacturer: Silicon Labs; PartNumber: Si8261BBC-C-IP; 10kV surge: TRUE; Driver Supply: 5 to 30 V; Isolation Rating (Input-Output, kVrms): 3.75; Max. Prop. Delay (ns): 60; Overlap Protection & Dead Time Control: FALSE; UVLO Voltage: 8 V; Sub-Family: ISOdrivers; DatasheetVersion: Rev. 0.9; PackageReference: DIP8; PackageDescription: 8-Pin Dual In-Line Package, Body 9.65 x 6.35 mm, Pitch 2.54 mm; Supplier 1: Mouser; Supplier Part Number 1: 634-SI8261BBC-C-IP; Mounting Technology: Surface Mount; ComponentLink1Description: Manufacturer URL; ComponentLink1URL: http://www.silabs.com/; ComponentLink2Description: Datasheet; ComponentLink2URL: http://www.silabs.com/Support%20Documents/TechnicalDocs/Si826x.pdf; ComponentLink3Description: Package Specification; ComponentLink3URL: http://www.silabs.com/Support%20Documents/TechnicalDocs/Si826x.pdf
footprint SLAB-DIP8_N (SOP, 8-Leads, Body 9.9x6.6mm, Pitch 2.54mm, IPC Medium Density)
footprint SLAB-DIP8_L (SOP, 8-Leads, Body 9.9x6.6mm, Pitch 2.54mm, IPC High Density)
footprint SLAB-DIP8_M (SOP, 8-Leads, Body 9.9x6.6mm, Pitch 2.54mm, IPC Low Density)
pins: 1 NC "No connect.", 2 ANODE "Anode of LED emulator. VO follows the signal applied to this input with respect to the CATHODE input.", 3 CATHODE "Cathode of LED emulator. VO follows the signal applied to ANODE with respect to this input", 4 NC "No connect.", 5 GND (power) "External MOSFET source connection and ground reference for VDD. This terminal is typically connected to ground but may be tied to a negative or positive voltage.", 6 VO (out) "Output signal. Both VO pins are required to be shorted together for 4.0 A compliance.", 7 VO (out) "Output signal. Both VO pins are required to be shorted together for 4.0 A compliance.", 8 VDD (power) "Output-side power supply input referenced to GND (30 V max)."

## Si8261BBC-C-IS
designator U?
Led Emulator Input, 4.0 A Isolated Gate Drivers, 5 to 30 V Driver Supply, 3.75 kVRMS Isolation Rating, -40 to 125 degC, 8-pin SOIC; Manufacturer: Silicon Labs; PartNumber: Si8261BBC-C-IS; 10kV surge: TRUE; Driver Supply: 5 to 30 V; Isolation Rating (Input-Output, kVrms): 3.75; Max. Prop. Delay (ns): 60; Overlap Protection & Dead Time Control: FALSE; UVLO Voltage: 8 V; Sub-Family: ISOdrivers; DatasheetVersion: Rev. 0.9; PackageReference: SOIC-8-NB; PackageDescription: 8-Pin Narrow Body Plastic Small Outline, Body 4.9 x 3.9 mm, Pitch 1.27 mm; Supplier 1: Mouser; Supplier Part Number 1: 634-SI8261BBC-C-IS; Mounting Technology: Surface Mount; ComponentLink1Description: Manufacturer URL; ComponentLink1URL: http://www.silabs.com/; ComponentLink2Description: Datasheet; ComponentLink2URL: http://www.silabs.com/Support%20Documents/TechnicalDocs/Si826x.pdf; ComponentLink3Description: Package Specification; ComponentLink3URL: http://www.silabs.com/Support%20Documents/TechnicalDocs/Si8220-21.pdf
footprint SLAB-SOIC-8-NB_N (SOIC, 8-Leads, Body 5x4mm, Pitch 1.27mm, IPC Medium Density)
footprint SLAB-SOIC-8-NB_L (SOIC, 8-Leads, Body 5x4mm, Pitch 1.27mm, IPC High Density)
footprint SLAB-SOIC-8-NB_M (SOIC, 8-Leads, Body 5x4mm, Pitch 1.27mm, IPC Low Density)
pins: 1 NC "No connect.", 2 ANODE "Anode of LED emulator. VO follows the signal applied to this input with respect to the CATHODE input.", 3 CATHODE "Cathode of LED emulator. VO follows the signal applied to ANODE with respect to this input", 4 NC "No connect.", 5 GND (power) "External MOSFET source connection and ground reference for VDD. This terminal is typically connected to ground but may be tied to a negative or positive voltage.", 6 VO (out) "Output signal. Both VO pins are required to be shorted together for 4.0 A compliance.", 7 VO (out) "Output signal. Both VO pins are required to be shorted together for 4.0 A compliance.", 8 VDD (power) "Output-side power supply input referenced to GND (30 V max)."